# Altium footprint library SOJ-32_400mil.PcbLib: 1 footprints
Each footprint in its own frame and in the unit in brackets; x right, y up, seen from the top. Pads: shape width x height; smd on the part's side, far side on the other; paste and mask are expansions set on the pad; w line width, h text height; cw(c..) or ccw(c..) is an arc to the next point about the centre after c.
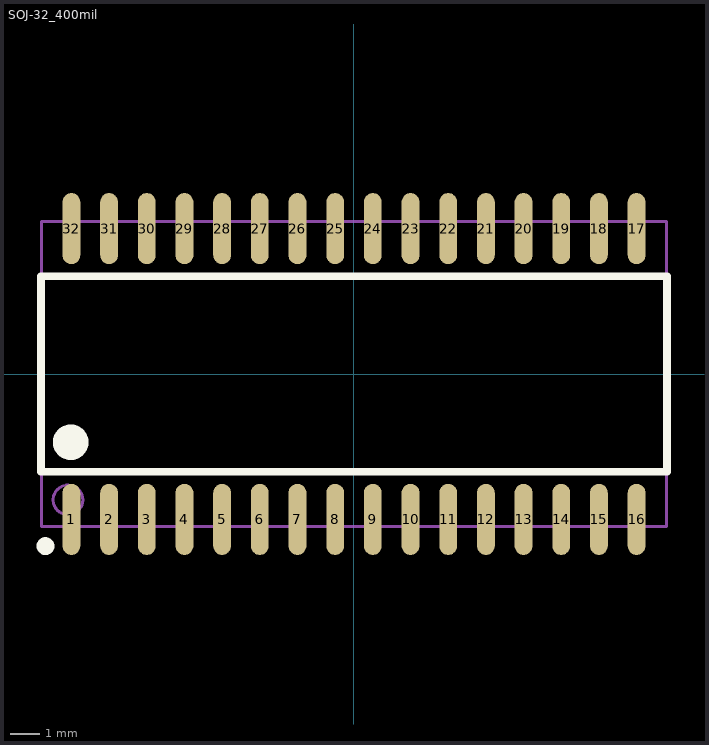
[diagram p0: the footprint, top view; thin cyan lines are the x and y axes]

## SOJ-32_400mil [mm]
pads (32):
  oval 0.6x2.4 smd: 1(-9.525,-4.9) 2(-8.255,-4.9) 3(-6.985,-4.9) 4(-5.715,-4.9) 5(-4.445,-4.9) 6(-3.175,-4.9) 7(-1.905,-4.9) 8(-0.635,-4.9) 9(0.635,-4.9) 10(1.905,-4.9) 11(3.175,-4.9) 12(4.445,-4.9) 13(5.715,-4.9) 14(6.985,-4.9) 15(8.255,-4.9) 16(9.525,-4.9) 17(9.525,4.9) 18(8.255,4.9) 19(6.985,4.9) 20(5.715,4.9) 21(4.445,4.9) 22(3.175,4.9) 23(1.905,4.9) 24(0.635,4.9) 25(-0.635,4.9) 26(-1.905,4.9) 27(-3.175,4.9) 28(-4.445,4.9) 29(-5.715,4.9) 30(-6.985,4.9) 31(-8.255,4.9) 32(-9.525,4.9)
Top Overlay:
  circle w0.3: c-10.4,-5.8 r0.15
  circle w0.6: c-9.55,-2.3 r0.3
  lines w0.254: -10.55,-3.3 10.55,-3.3 10.55,3.3 -10.55,3.3 -10.55,-3.3
Mechanical 13:
  circle w0.1: c-9.64,-4.245 r0.5
  lines w0.1: -10.54,-5.145 10.54,-5.145 10.54,5.145 -10.54,5.145 -10.54,-5.145